# Altium footprint library lib.PcbLib: 35 footprints (part 1 of 3)
Each footprint in its own frame and in the unit in brackets; x right, y up, seen from the top. Pads: shape width x height; smd on the part's side, far side on the other; paste and mask are expansions set on the pad; w line width, h text height; cw(c..) or ccw(c..) is an arc to the next point about the centre after c.
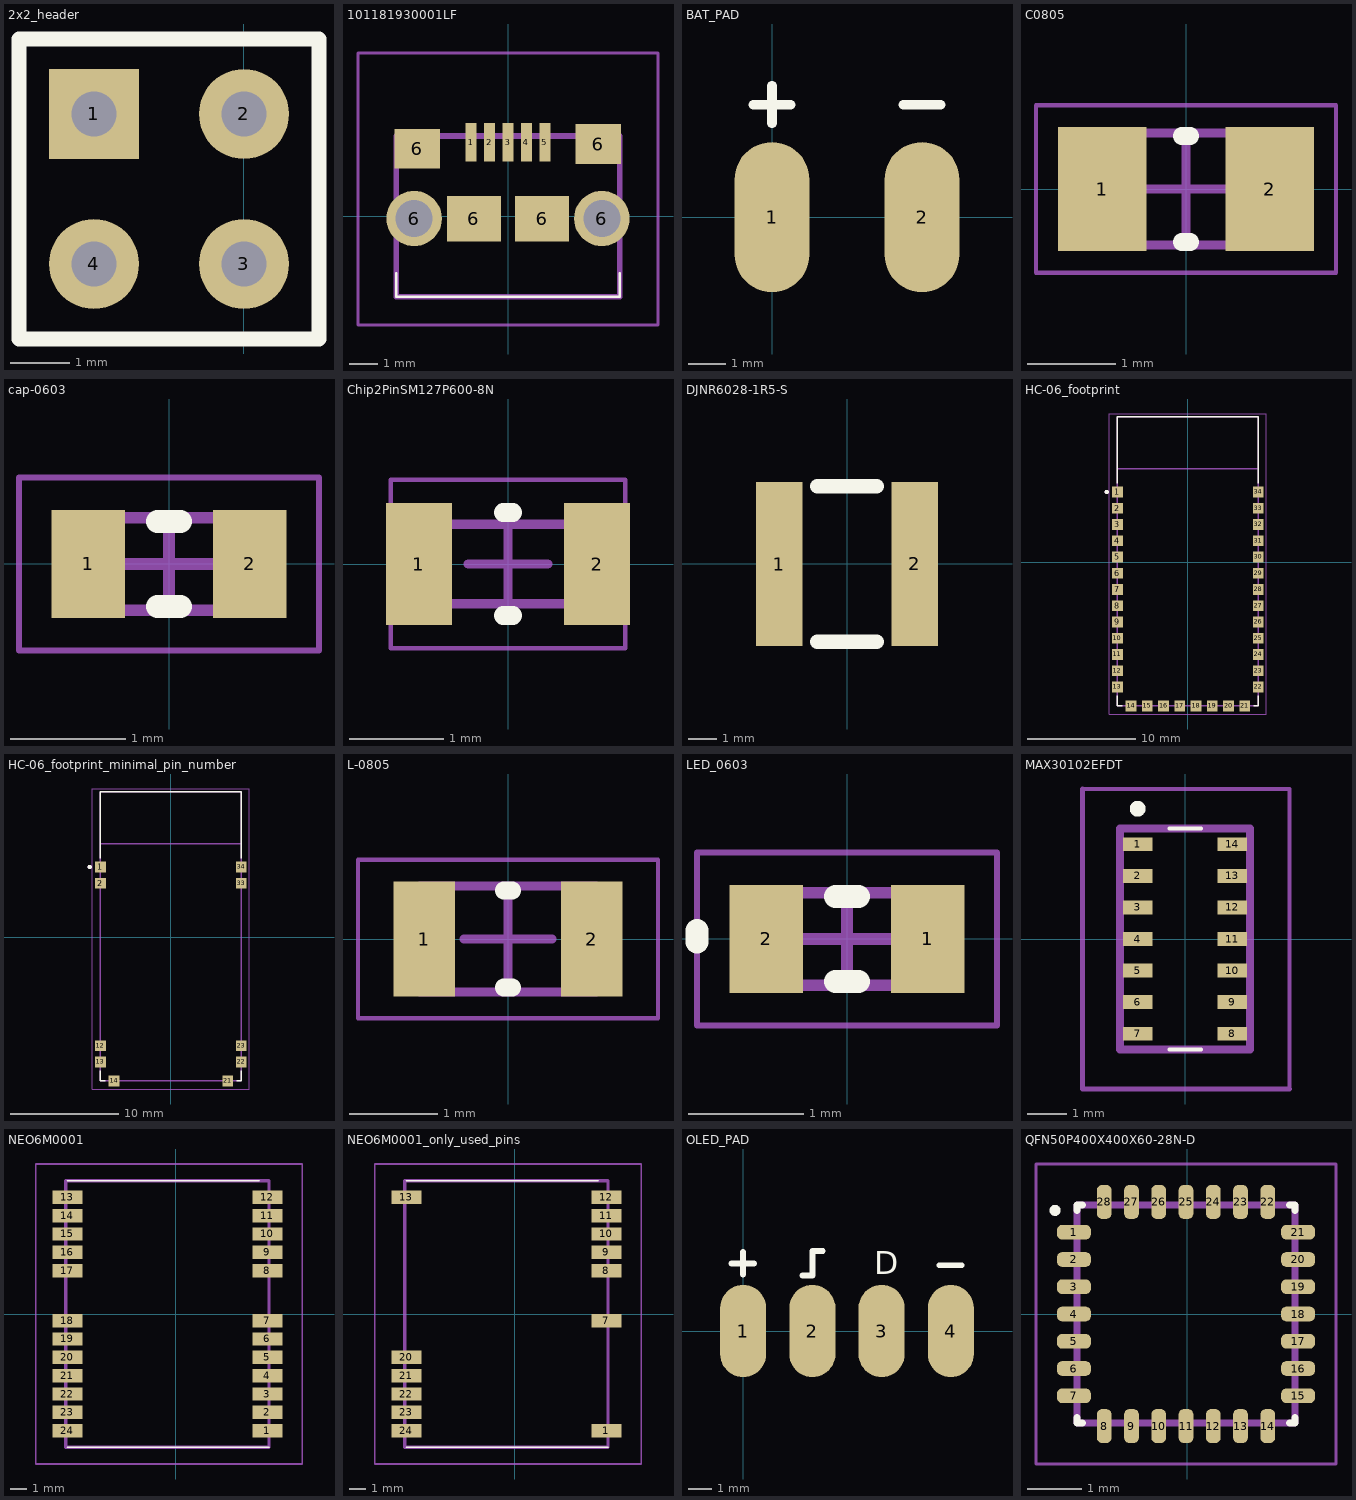
[diagram p0: the footprints below, top view; thin cyan lines are the x and y axes]

## 2x2_header [mil]
pads (4):
  rect 60x60 hole 30: 1(-100,400)
  round 60 hole 30: 2(0,400) 3(0,300) 4(-100,300)
Top Overlay:
  lines w9.84: -150,250 -150,450 50,450 50,250 -150,250

## 101181930001LF [mm] "microUSB footprint"
pads (11):
  rect 0.4x1.35 smd: 1(-1.3,2.6) 2(-0.65,2.6) 3(0,2.6) 4(0.65,2.6) 5(1.3,2.6)
  round 1.95 hole 1.3: 6(-3.3,-0.075) 6(3.3,-0.075)
  rect 1.6x1.4 smd: 6(-3.2,2.375) 6(3.175,2.54)
  rect 1.9x1.6 smd: 6(-1.2,-0.075) 6(1.2,-0.075)
Top Overlay:
  lines w0.1: -3.93,-2.825 -3.93,-2 -3.93,-2.825 ; -3.93,-2.825 3.93,-2.825 ; -3.93,-2.825 3.93,-2.825 ; 3.93,-2.825 3.93,-2 3.93,-2.825
Mechanical 13:
  lines w0.2: -3.93,-2.825 3.93,-2.825 3.93,2.825 -3.93,2.825 -3.93,-2.825
Mechanical 15:
  lines w0.1: -5.275,-3.825 5.275,-3.825 5.275,5.75 -5.275,5.75 -5.275,-3.825
3D body "usb-10118193-0001lfc.stp": height 2.81, standoff -0.79, extent -3.928,-2.74 3.928,2.921

## BAT_PAD [mm]
pads (2):
  oval 2x4 smd: 1(0,0) 2(4,0)
Top Overlay:
  lines w0.254: -0.5,3 0.5,3 ; 0,2.5 0,3.5 ; 3.5,3 4.5,3

## C0805 [mm]
height 0.56
pads (2):
  rect 1x1.4 smd: 1(-0.95,0) 2(0.95,0)
Top Overlay:
  lines w0.2: -0.05,-0.6 0.05,-0.6 ; -0.05,0.6 0.05,0.6
Mechanical 13:
  lines w0.1: -1.015,-0.635 1.015,-0.635 1.015,0.635 -1.015,0.635 -1.015,-0.635
Mechanical 15:
  lines w0.05: -1.7,-0.95 1.7,-0.95 1.7,0.95 -1.7,0.95 -1.7,-0.95
  lines w0.1: -0.5,0 0.5,0 ; 0,-0.5 0,0.5
3D body "C0805.step": height 0.56, standoff 0, extent -1.015,-0.635 1.015,0.635

## cap-0603 [mm]
height 0.5
pads (2):
  rect 0.64x0.94 smd: 1(-0.7,0) 2(0.7,0)
Top Overlay:
  lines w0.2: -0.1,-0.37 0.1,-0.37 ; -0.1,0.37 0.1,0.37
Mechanical 13:
  lines w0.1: -0.75,-0.4 0.75,-0.4 0.75,0.4 -0.75,0.4 -0.75,-0.4
Mechanical 15:
  lines w0.05: -1.3,-0.75 1.3,-0.75 1.3,0.75 -1.3,0.75 -1.3,-0.75
  lines w0.1: -0.4,0 0.4,0 ; 0,-0.4 0,0.4
3D body "cap-0603.step": height 0.5, standoff 0, extent -0.75,-0.4 0.75,0.4

## Chip2PinSM127P600-8N [mm]
height 0.45
pads (2):
  rect 0.7x1.3 smd: 1(-0.95,0) 2(0.95,0)
Top Overlay:
  lines w0.2: -0.05,-0.55 0.05,-0.55 ; -0.05,0.55 0.05,0.55
Mechanical 13:
  lines w0.1: -0.775,-0.425 -0.775,0.425 0.775,0.425 0.775,-0.425 -0.775,-0.425
Mechanical 15:
  lines w0.05: -1.25,-0.9 -1.25,0.9 1.25,0.9 1.25,-0.9 -1.25,-0.9
  lines w0.1: -0.425,0 0.425,0 ; 0,-0.425 0,0.425
3D body "Chip2PinSM127P600-8N.step": height 0.45, standoff 0, extent -0.775,-0.425 0.775,0.425

## DJNR6028-1R5-S [mm]
pads (2):
  rect 1.6x5.7 smd: 1(-2.35,0) 2(2.35,0)
Top Overlay:
  lines w0.5: -1.025,-2.7 1.025,-2.7 ; -1.025,2.7 1.025,2.7
3D body "DJNR6028.STEP": height 2.58, standoff 0, extent -3,-3.073 3,3.073

## HC-06_footprint [mm]
pads (34):
  rect 1x1 smd: 1(-6.5,6.5) 2(-6.5,5) 3(-6.5,3.5) 4(-6.5,2) 5(-6.5,0.5) 6(-6.5,-1) 7(-6.5,-2.5) 8(-6.5,-4) 9(-6.5,-5.5) 10(-6.5,-7) 11(-6.5,-8.5) 12(-6.5,-10) 13(-6.5,-11.5) 14(-5.25,-13.25) 15(-3.75,-13.25) 16(-2.25,-13.25) 17(-0.75,-13.25) 18(0.75,-13.25) 19(2.25,-13.25) 20(3.75,-13.25) 21(5.25,-13.25) 22(6.5,-11.5) 23(6.5,-10) 24(6.5,-8.5) 25(6.5,-7) 26(6.5,-5.5) 27(6.5,-4) 28(6.5,-2.5) 29(6.5,-1) 30(6.5,0.5) 31(6.5,2) 32(6.5,3.5) 33(6.5,5) 34(6.5,6.5)
Top Overlay:
  circle w0.2: c-7.5,6.5 r0.1
  lines w0.127: -6.5,-12.314 -6.5,-13.25 -6.064,-13.25 ; -6.5,7.314 -6.5,13.45 6.5,13.45 6.5,7.314 ; 6.064,-13.25 6.5,-13.25 6.5,-12.314
Mechanical 13:
  circle w0.2: c-7.5,6.5 r0.1
  circle w0.2: c-7.5,6.5 r0.1
  lines w0.127: -6.5,-13.25 -6.5,8.65 ; -6.5,-13.25 6.5,-13.25 ; -6.5,-13.25 -6.5,8.65 ; -6.5,-13.25 6.5,-13.25 ; -6.5,8.65 6.5,8.65 ; -6.5,8.65 -6.5,13.45 ; -6.5,8.65 6.5,8.65 ; -6.5,8.65 -6.5,13.45 ; -6.5,13.45 6.5,13.45 ; -6.5,13.45 6.5,13.45 ; 6.5,-13.25 6.5,8.65 ; 6.5,-13.25 6.5,8.65 ; 6.5,8.65 6.5,13.45 ; 6.5,8.65 6.5,13.45
  text "ANTENNA" at -5.715,10.16 h1.88
Mechanical 15:
  lines w0.05: -7.25,-14 -7.25,13.7 7.25,13.7 7.25,-14 -7.25,-14
3D body "HC-06.step": height 4.32, standoff 0.01, extent -6.477,-13.246 6.523,13.754

## HC-06_footprint_minimal_pin_number [mm]
pads (10):
  rect 1x1 smd: 1(-6.5,6.5) 2(-6.5,5) 12(-6.5,-10) 13(-6.5,-11.5) 14(-5.25,-13.25) 21(5.25,-13.25) 22(6.5,-11.5) 23(6.5,-10) 33(6.5,5) 34(6.5,6.5)
Top Overlay:
  circle w0.2: c-7.5,6.5 r0.1
  lines w0.127: -6.5,-12.314 -6.5,-13.25 -6.064,-13.25 ; -6.5,7.314 -6.5,13.45 6.5,13.45 6.5,7.314 ; 6.064,-13.25 6.5,-13.25 6.5,-12.314
Mechanical 13:
  circle w0.2: c-7.5,6.5 r0.1
  circle w0.2: c-7.5,6.5 r0.1
  lines w0.127: -6.5,-13.25 6.5,-13.25 ; -6.5,-13.25 -6.5,8.65 ; -6.5,-13.25 6.5,-13.25 ; -6.5,-13.25 -6.5,8.65 ; -6.5,8.65 -6.5,13.45 ; -6.5,8.65 6.5,8.65 ; -6.5,8.65 -6.5,13.45 ; -6.5,8.65 6.5,8.65 ; -6.5,13.45 6.5,13.45 ; -6.5,13.45 6.5,13.45 ; 6.5,-13.25 6.5,8.65 ; 6.5,-13.25 6.5,8.65 ; 6.5,8.65 6.5,13.45 ; 6.5,8.65 6.5,13.45
  text "ANTENNA" at -5.715,10.16 h1.88
Mechanical 15:
  lines w0.05: -7.25,-14 7.25,-14 7.25,13.7 -7.25,13.7 -7.25,-14
3D body "HC-06.step": height 4.32, standoff 0.01, extent -6.477,-13.246 6.523,13.754

## L-0805 [mm]
height 0.5
pads (2):
  rect 0.7x1.3 smd: 1(-0.95,0) 2(0.95,0)
Top Overlay:
  lines w0.2: -0.05,-0.55 0.05,-0.55 ; -0.05,0.55 0.05,0.55
Mechanical 13:
  lines w0.1: -1,-0.6 1,-0.6 1,0.6 -1,0.6 -1,-0.6
Mechanical 15:
  lines w0.05: -1.7,-0.9 1.7,-0.9 1.7,0.9 -1.7,0.9 -1.7,-0.9
  lines w0.1: -0.5,0 0.5,0 ; 0,-0.5 0,0.5
3D body "L-0805.step": height 0.5, standoff 0, extent -1,-0.6 1,0.6

## LED_0603 [mm]
height 0.5
pads (2):
  rect 0.64x0.94 smd: 1(0.7,0) 2(-0.7,0)
Top Overlay:
  lines w0.2: -1.3,-0.025 -1.3,0.075 ; -0.1,-0.37 0.1,-0.37 ; -0.1,0.37 0.1,0.37
Mechanical 13:
  lines w0.1: -0.75,-0.4 0.75,-0.4 0.75,0.4 -0.75,0.4 -0.75,-0.4
Mechanical 15:
  lines w0.05: -1.3,-0.75 1.3,-0.75 1.3,0.75 -1.3,0.75 -1.3,-0.75
  lines w0.1: -0.4,0 0.4,0 ; 0,-0.4 0,0.4
3D body "0603_led.step": height 0.6, standoff 0, extent -0.81,-0.4 0.81,0.4

## MAX30102EFDT [mm]
pads (14):
  rect 0.75x0.35 smd: 1(-1.2,2.4) 2(-1.2,1.6) 3(-1.2,0.8) 4(-1.2,0) 5(-1.2,-0.8) 6(-1.2,-1.6) 7(-1.2,-2.4) 8(1.2,-2.4) 9(1.2,-1.6) 10(1.2,-0.8) 11(1.2,0) 12(1.2,0.8) 13(1.2,1.6) 14(1.2,2.4)
Top Overlay:
  lines w0.1: -0.4,-2.8 0.4,-2.8 ; -0.4,2.8 0.4,2.8
  lines w0.2: -1.3,3.3 ccw(c-1.2,3.3) -1.1,3.3 ccw(c-1.2,3.3) -1.3,3.3
Mechanical 13:
  lines w0.2: -1.65,-2.8 1.65,-2.8 1.65,2.8 -1.65,2.8 -1.65,-2.8
Mechanical 15:
  lines w0.1: -2.6,3.8 2.65,3.8 2.65,-3.8
  lines w0.127: -2.6,3.8 -2.6,1.9 -2.6,-1.9 -2.6,-3.8 2.65,-3.8
3D body "MAX30102EFD+T.stp": height 1.75, standoff 0, extent -1.65,-2.8 1.65,2.8

## NEO6M0001 [mm]
pads (24):
  rect 1.8x0.8 smd: 1(5.5,-7) 2(5.5,-5.9) 3(5.5,-4.8) 4(5.5,-3.7) 5(5.5,-2.6) 6(5.5,-1.5) 7(5.5,-0.4) 8(5.5,2.6) 9(5.5,3.7) 10(5.5,4.8) 11(5.5,5.9) 12(5.5,7) 13(-6.5,7) 14(-6.5,5.9) 15(-6.5,4.8) 16(-6.5,3.7) 17(-6.5,2.6) 18(-6.5,-0.4) 19(-6.5,-1.5) 20(-6.5,-2.6) 21(-6.5,-3.7) 22(-6.5,-4.8) 23(-6.5,-5.9) 24(-6.5,-7)
Top Overlay:
  lines w0.1: -6.5,-8 5.6,-8 ; -6.5,8 5,8
Mechanical 13:
  lines w0.2: -6.6,-8 5.6,-8 5.6,8 -6.6,8 -6.6,-8
Mechanical 15:
  lines w0.1: -8.4,-9 7.6,-9 7.6,9 -8.4,9 -8.4,-9
3D body "UBLOX_GPS_NEO-6M.step": height 2.64, standoff 0, extent -6.73,-8.3 5.63,8.3

## NEO6M0001_only_used_pins [mm]
pads (13):
  rect 1.8x0.8 smd: 1(5.5,-7) 7(5.5,-0.4) 8(5.5,2.6) 9(5.5,3.7) 10(5.5,4.8) 11(5.5,5.9) 12(5.5,7) 13(-6.5,7) 20(-6.5,-2.6) 21(-6.5,-3.7) 22(-6.5,-4.8) 23(-6.5,-5.9) 24(-6.5,-7)
Top Overlay:
  lines w0.1: -6.5,-8 5.6,-8 ; -6.5,8 5,8
Mechanical 13:
  lines w0.2: -6.6,-8 -6.6,8 5.6,8 5.6,-8 -6.6,-8
Mechanical 15:
  lines w0.1: -8.4,-9 -8.4,9 7.6,9 7.6,-9 -8.4,-9
3D body "UBLOX_GPS_NEO-6M.step": height 2.64, standoff 0, extent -6.73,-8.3 5.63,8.3

## OLED_PAD [mm]
pads (4):
  oval 2x4 smd: 1(0,0) 2(3,0) 3(6,0) 4(9,0)
Top Overlay:
  lines w0.254: -0.5,2.925 0.475,2.925 ; 0,2.45 0,3.425 ; 2.575,2.4 3,2.4 3,3.475 3.45,3.475 ; 8.5,2.85 9.475,2.85
  text "D" at 5.675,2.45 h1

## QFN50P400X400X60-28N-D [mm]
pads (28):
  rrect70% 0.62x0.27 smd: 1(-2.078,1.508) 2(-2.078,1.008) 3(-2.078,0.508) 4(-2.078,0.008) 5(-2.078,-0.492) 6(-2.078,-0.992) 7(-2.078,-1.492) 15(2.032,-1.492) 16(2.032,-0.992) 17(2.032,-0.492) 18(2.032,0.008) 19(2.032,0.508) 20(2.032,1.008) 21(2.032,1.508)
  rrect70% 0.27x0.62 smd: 8(-1.523,-2.047) 9(-1.023,-2.047) 10(-0.523,-2.047) 11(-0.023,-2.047) 12(0.477,-2.047) 13(0.977,-2.047) 14(1.477,-2.047) 22(1.477,2.063) 23(0.977,2.063) 24(0.477,2.063) 25(-0.023,2.063) 26(-0.523,2.063) 27(-1.023,2.063) 28(-1.523,2.063)
Top Overlay:
  circle w0.1: c-2.423,1.908 r0.05
  lines w0.127: -2.023,-1.892 -2.023,-1.992 -1.923,-1.992 ; -2.023,1.908 -2.023,2.008 -1.923,2.008 ; 1.877,-1.992 1.977,-1.992 1.977,-1.892 ; 1.877,2.008 1.977,2.008 1.977,1.908
Mechanical 13:
  lines w0.127: -2.023,-1.992 -2.023,2.008 1.977,2.008 1.977,-1.992 -2.023,-1.992
Mechanical 15:
  lines w0.05: -2.773,-2.742 -2.773,2.758 2.727,2.758 2.727,-2.742 -2.773,-2.742
3D body "STM32L031G6U6.stp": height 0.6, standoff 0, extent -2.073,-2.042 2.027,2.058